# EAGLE library part MPU-6050 (library Cing Library)
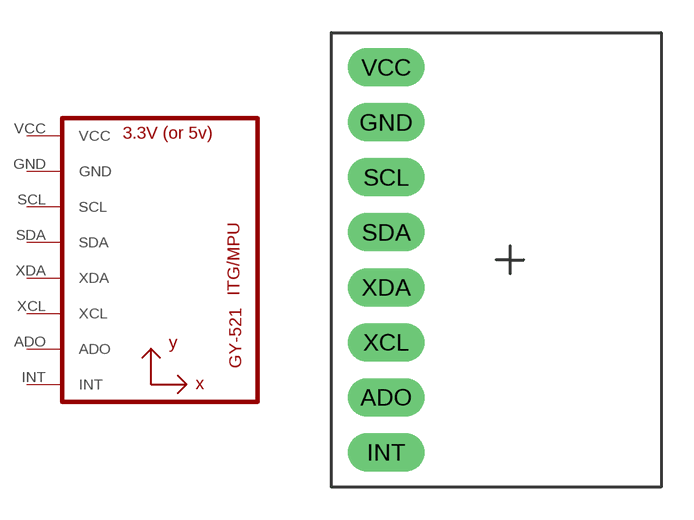
[diagram p7: symbol with the pads of MPU-6050; footprint MPU-6050]

Designator prefix U

## MPU-6050MPU6050  [MPU-6050]
ADO  ADO
GND  GND
INT  INT
SCL  SCL
SDA  SDA
VCC  VCC
XCL  XCL
XDA  XDA

## Footprint MPU-6050 (pad centres in mm)
drill 0.8 pad 1.778 long: ADO 0,-6.35; GND 0,6.35; INT 0,-8.89; SCL 0,3.81; SDA 0,1.27; VCC 0,8.89; XCL 0,-3.81; XDA 0,-1.27